# Altium schematic symbol library hallglib.SchLib: 52 symbols
Pins are listed as number, name and electrical type; pins without a type are passive.

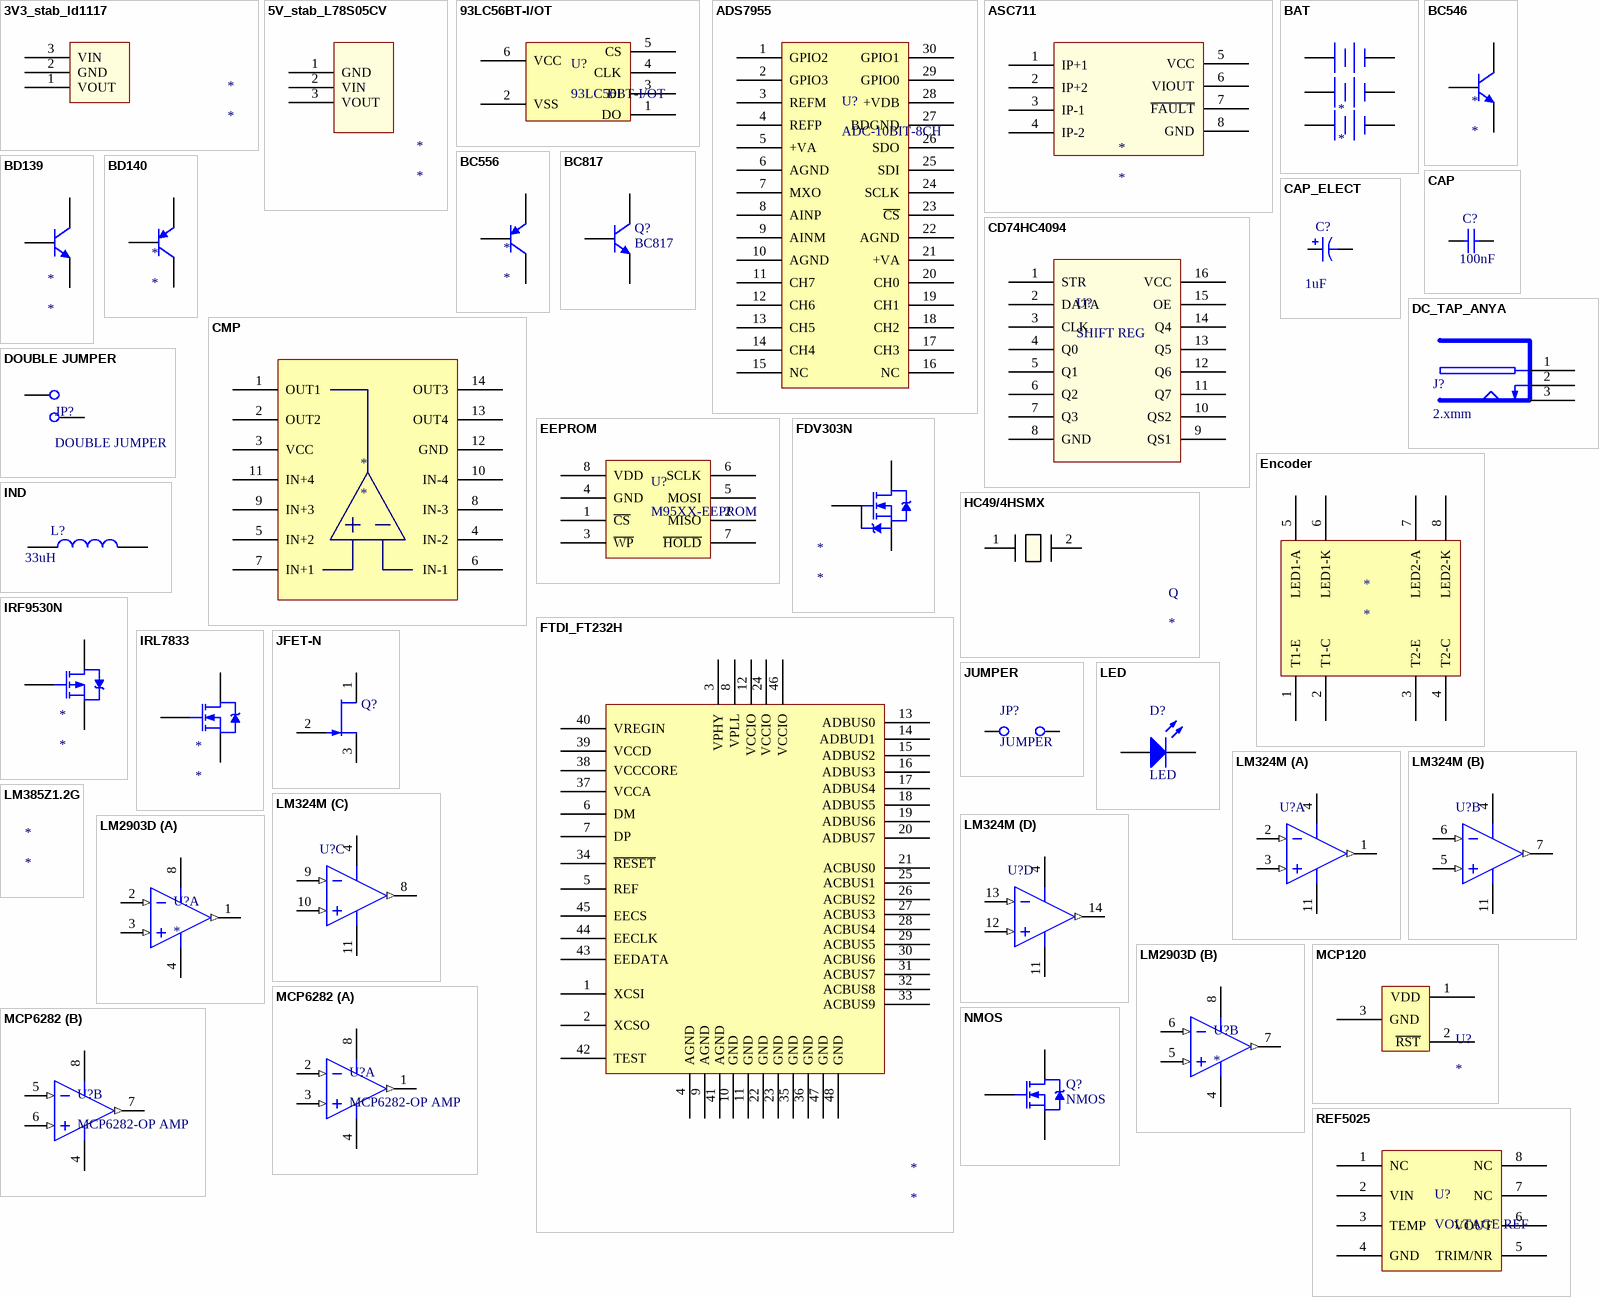
[diagram p0: symbols 3V3_stab_ld1117 to REF5025]

## 3V3_stab_ld1117
designator *
footprint TO-220 (TO, Thru-Hole, Vertical, Heatsink Mounted; 3 In-Line Leads; Pitch 3.81 mm)
pins: 1 VOUT, 2 GND, 3 VIN

## 5V_stab_L78S05CV
designator *
footprint TO-220 (TO, Thru-Hole, Vertical, Heatsink Mounted; 3 In-Line Leads; Pitch 3.81 mm)
pins: 1 GND, 2 VIN, 3 VOUT

## 93LC56BT-I/OT
designator U?
EEPROM
footprint SOT-23
pins: 1 DO, 2 VSS, 3 DI, 4 CLK, 5 CS, 6 VCC

## ADS7955
designator U?, comment ADC-10BIT-8CH
8 CH - 10 BIT - 1MSPS - ADC
pins: 1 GPIO2, 2 GPIO3, 3 REFM, 4 REFP, 5 +VA, 6 AGND, 7 MXO, 8 AINP, 9 AINM, 10 AGND, 11 CH7, 12 CH6, 13 CH5, 14 CH4, 15 NC, 16 NC, 17 CH3, 18 CH2, 19 CH1, 20 CH0, 21 +VA, 22 AGND, 23 ~{CS}, 24 SCLK, 25 SDI, 26 SDO, 27 BDGND, 28 +VDB, 29 GPIO0, 30 GPIO1

## ASC711
designator *
Árammérő
footprint SOP8
pins: 1 IP+1, 2 IP+2, 3 IP-1, 4 IP-2, 5 VCC, 6 VIOUT, 7 ~{FAULT}, 8 GND

## BAT
designator *
footprint Elemtarto_3rekesz
pins: 1 GND, 2 GND, 3 GND, 4 VCC, 5 VCC, 6 VCC

## BC546
designator *
NPN tranzisztor
footprint TO-92 (TO, Flat Index; 3 In-Line, Axial Leads; Body Dia. 4.6mm; Leads 0.41 x 0.39 mm (max))
pins: 1 C, 2 B, 3 E

## BC556
designator *
PNP tranzisztor
footprint TO-92 (TO, Flat Index; 3 In-Line, Axial Leads; Body Dia. 4.6mm; Leads 0.41 x 0.39 mm (max))
pins: 1 C, 2 B, 3 E

## BC817
designator Q?
NPN General-purpose Transistor; ComponentLink1Description: Manufacturer Link; ComponentLink1URL: http://www.semiconductors.philips.com/; ComponentLink2Description: Datasheet; ComponentLink2URL: http://www.semiconductors.philips.com/acrobat/datasheets/BC817_BC817W_BC337_5.pdf
simulation model QBC817 (NPN)
signal-integrity model BC817
footprint FP_SOT23-3 (SOT23-3 tok)
footprint TO-32
pins: 1 B, 2 E, 3 C

## BD139
designator *
NPN tranzisztor
footprint TO-32
pins: 1 E, 2 C, 3 B

## BD140
designator *
PNP tranzisztor
footprint TO-32
pins: 1 B, 2 C, 3 E

## CAP
designator C?, comment 100nF
Capacitor; Value: 100nF
simulation model CAP (Capacitor)
signal-integrity model Cap
footprint FP_0402_CAP_050 (0.5mm magas 0402 kapacitás)
footprint FP_0603_CAP_080 (0.8mm magas 0603 kapacitás)
footprint FP_0805_CAP_085 (0805 kapacitás YAGEO 0.85mm magas)
footprint FP_1206_CAP_125 (1206 kapacitás 1.25 mm)
footprint AXIAL-0.3 (Axial Device, Thru-Hole; 2 Leads; 0.3 in Pin Spacing)
pins: 1, 2

## CAP_ELECT
designator C?, comment 1uF
Polarized Capacitor; Value: 1uF
footprint FP_3528 (3528 TANTÁL SMD "B"-TOK)
footprint FP_6032
footprint FP_7343
footprint AXIAL-0.3 (Axial Device, Thru-Hole; 2 Leads; 0.3 in Pin Spacing)
pins: N, P
1 alternate drawing of the same symbol

## CD74HC4094
designator U?, comment SHIFT REG
8BIT SHIFT REG
pins: 1 STR, 2 DATA, 3 CLK, 4 Q0, 5 Q1, 6 Q2, 7 Q3, 8 GND, 9 QS1, 10 QS2, 11 Q7, 12 Q6, 13 Q5, 14 Q4, 15 OE, 16 VCC

## CMP
designator *
pins: 1 OUT1, 2 OUT2, 3 VCC, 4 IN-2, 5 IN+2, 6 IN-1, 7 IN+1, 8 IN-3, 9 IN+3, 10 IN-4, 11 IN+4, 12 GND, 13 OUT4, 14 OUT3

## DC_TAP_ANYA
designator J?, comment 2.xmm
2.xmm DC HEBA25 TÁPFESZÜLTSÉG ALJZAT ZÁRT, NYÁKBA 90°; Supplier: Lomex 43-07-67
footprint FP_DC_TAP_ANYA (DC HEBA25 TÁPFESZÜLTSÉG ALJZAT ZÁRT, NYÁKBA 90°)
pins: 1 9V (power), 2 GND (power), 3 GND (power)

## DOUBLE JUMPER
designator JP?
Jumper Wire; Supplier: Farnell 1668537×1/6
footprint FP_CONN2_TUSKE_2MM_1.5+3.2 (2×1-es tüskesor, 2mm-es raszter, 1.5mm műanyag + 3.2mm tüske SAMTEC-TMM-1XX-01-...)
pins: 1 C1, 2 C2

## EEPROM
designator U?, comment M95XX-EEPROM
pins: 1 ~{CS}, 2 MISO, 3 ~{WP}, 4 GND, 5 MOSI, 6 SCLK, 7 ~{HOLD}, 8 VDD

## Encoder
designator *
pins: 1 T1-E, 2 T1-C, 3 T2-E, 4 T2-C, 5 LED1-A, 6 LED1-K, 7 LED2-A, 8 LED2-K

## FDV303N
designator *
footprint FP_SOT23-3 (SOT23-3 tok)
pins: 1 G, 2 S, 3 D

## FTDI_FT232H
designator *
USB transciever
footprint LQFP48
pins: 1 XCSI, 2 XCSO, 3 VPHY, 4 AGND, 5 REF, 6 DM, 7 DP, 8 VPLL, 9 AGND, 10 GND, 11 GND, 12 VCCIO, 13 ADBUS0, 14 ADBUD1, 15 ADBUS2, 16 ADBUS3, 17 ADBUS4, 18 ADBUS5, 19 ADBUS6, 20 ADBUS7, 21 ACBUS0, 22 GND, 23 GND, 24 VCCIO, 25 ACBUS1, 26 ACBUS2, 27 ACBUS3, 28 ACBUS4, 29 ACBUS5, 30 ACBUS6, 31 ACBUS7, 32 ACBUS8, 33 ACBUS9, 34 ~{RE}~{SET}, 35 GND, 36 GND, 37 VCCA, 38 VCCCORE, 39 VCCD, 40 VREGIN, 41 AGND, 42 TEST, 43 EEDATA, 44 EECLK, 45 EECS, 46 VCCIO, 47 GND, 48 GND

## HC49/4HSMX
designator Q
kristály
footprint Crystal_10MHz
pins: 1 X1, 2 X2

## IND
designator L?, comment 33uH
Inductor; Value: 33uH
footprint FP_IND_MURATA3131 (Murata Chip Inductor LQH88P Series (3131 Size))
footprint AXIAL-0.3 (Axial Device, Thru-Hole; 2 Leads; 0.3 in Pin Spacing)
footprint toroid
pins: 1, 2

## IRF9530N
designator *
P-MOSFET
footprint TO-220-AB (TO, Thru-Hole, Vertical, Heatsink Mounted; 3 In-Line Leads; Pitch 2.54 mm)
pins: 1 G, 2 D, 3 S

## IRL7833
designator *
N-FET
footprint TO-220-AB (TO, Thru-Hole, Vertical, Heatsink Mounted; 3 In-Line Leads; Pitch 2.54 mm)
pins: 1 G, 2 D, 3 S

## JFET-N
designator Q?
N-Channel JFET; Published: 8-Jun-2000; LatestRevisionDate: 17-Jul-2002; LatestRevisionNote: Re-released for DXP Platform.; PackageReference: TO-254-AA; Publisher: Altium Limited; Code_JEDEC: TO-254-AA
simulation model NJFET
footprint TO-220 (TO, Thru-Hole, Vertical, Heatsink Mounted; 3 In-Line Leads; Pitch 3.81 mm)
pins: 1 D, 2 G, 3 S

## JUMPER
designator JP?
Jumper Wire; Supplier: Farnell 1668537×1/6
footprint FP_CONN2_TUSKE_2MM_1.5+3.2 (2×1-es tüskesor, 2mm-es raszter, 1.5mm műanyag + 3.2mm tüske SAMTEC-TMM-1XX-01-...)
pins: 1 C1, 2 C2

## LED
designator D?
Typical RED GaAs LED
simulation model LED1 (Diode)
footprint FP_LED_TH_GREEN (5mm átmérőjű furatszerelt zöld LED); pin to pad 1>A 2>K
footprint FP_LED_TH_RED (5mm átmérőjű furatszerelt piros LED); pin to pad 1>A 2>K
footprint FP_0805_LED_RED (0805 méretű piros LED); pin to pad 1>A 2>K
footprint FP_0805_LED_GREEN (0805 méretű zöld LED); pin to pad 1>A 2>K
pins: 1 A, 2 K

## LM324M
designator U?
Low Power Quad Operational Amplifier, 14-pin Narrow SOIC; Code_JEDEC: MS-012AB; Code_IPC: SOIC127P600-14; ComponentLink1Description: LM324 Datasheet; ComponentLink1URL: http://www.national.com/ds/LM/LM324.pdf; ComponentLink2Description: LM324 Web Page; ComponentLink2URL: http://www.national.com/pf/LM/LM324.html; ComponentLink3Description: M14A Package Page; ComponentLink3URL: http://www.national.com/packaging/folders/m14a.html
simulation model LM324 (SUBCKT)
footprint FP_SOIC14 (SOIC-14 egyesek szerint narrow, RET szerint normál)
pins on every part: 4 V+ (power), 11 GND (power)
part A pins: 1 OUT1 (out), 2 IN1- (in), 3 IN1+ (in)
part B pins: 5 IN2+ (in), 6 IN2- (in), 7 OUT2 (out)
part C pins: 8 OUT3 (out), 9 IN3- (in), 10 IN3+ (in)
part D pins: 12 IN4+ (in), 13 IN4- (in), 14 OUT4 (out)

## LM385Z1.2G
designator *

## LM2903D
designator U?
komparátor
footprint FP_SO8_MS012AA (SO8 JEDEC MS-012AA, Analog Devices R-8, SO8-SOT96-1, NS M08A)
part A pins: 1 OUT1 (out), 2 IN1- (in), 3 IN1+ (in), 4 GND (power), 8 VCC (power)
part B pins: 4 GND (power), 5 IN2+ (in), 6 IN2- (in), 7 OUT2 (out), 8 VCC (power)

## MCP120
designator U?
Voltage detector
footprint SOT-23 - 3
pins: 1 VDD, 2 ~{RST}, 3 GND

## MCP6282
designator U?, comment MCP6282-OP AMP
MCP6282-2CH OP AMP
part A pins: 1 OUT1 (out), 2 IN1- (in), 3 IN1+ (in), 4 V- (power), 8 V+ (power)
part B pins: 4 V- (power), 5 IN2- (in), 6 IN2+ (in), 7 OUT2 (out), 8 V+ (power)

## NMOS
designator Q?
NXP - BSP030,115 - MOSFET, N CH, 30V, 10A, SOT223; Supplier: Farnell 1758077
footprint FP_SOT223 (SOT223 package, 3 leads)
pins: 1 G, 2 D, 3 S

## REF5025
designator U?, comment VOLTAGE REF
VOLTAGE REFERENCE
pins: 1 NC, 2 VIN, 3 TEMP, 4 GND, 5 TRIM/NR, 6 VOUT, 7 NC, 8 NC

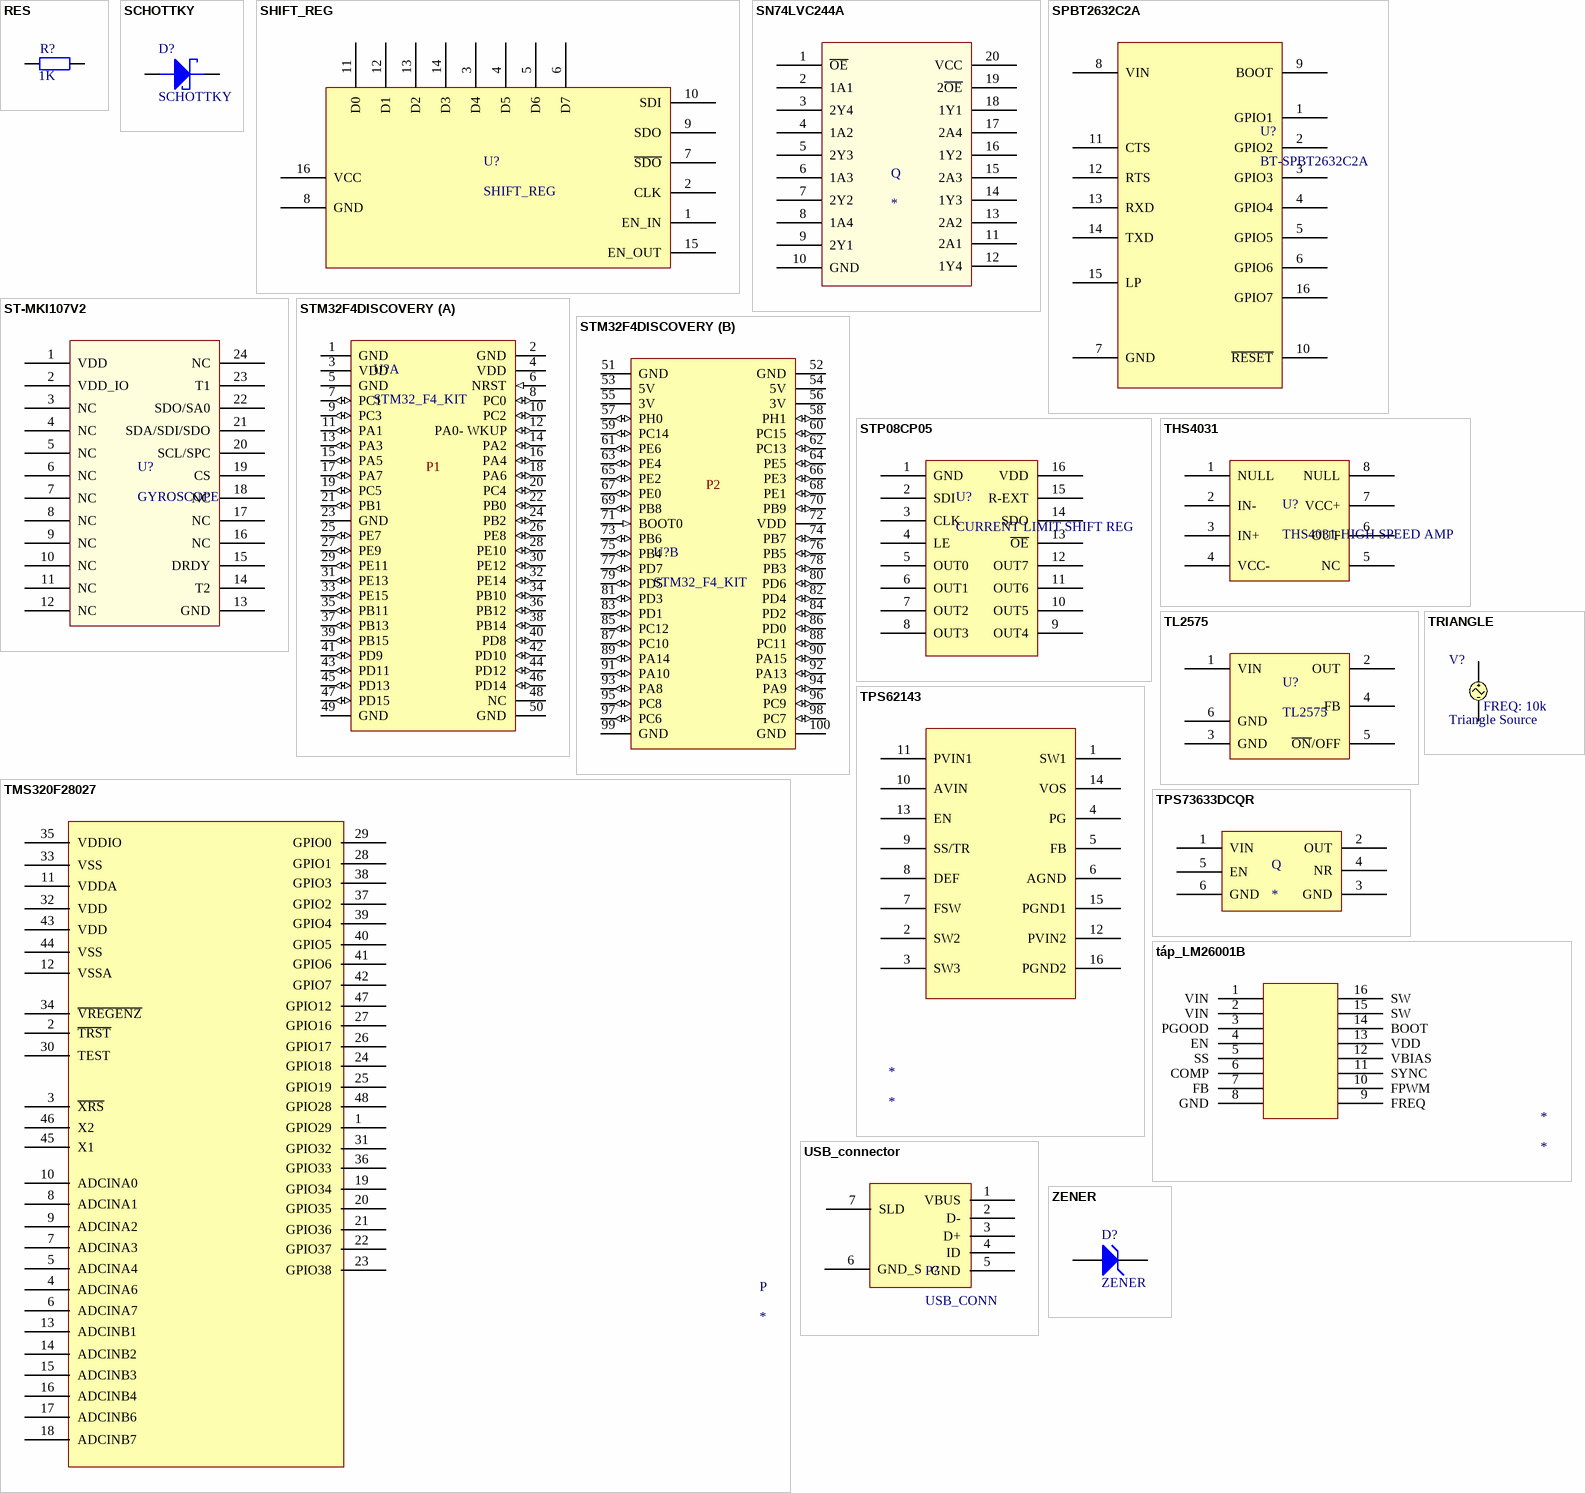
[diagram p1: symbols RES to ZENER]

## RES
designator R?, comment 1K
Resistor; Value: 1K
simulation model RESISTOR (Resistor)
signal-integrity model Res
footprint FP_0603_RES (0603 ellenállás)
footprint FP_0805_RES (0805 ellenállás)
footprint FP_1206_RES (1206 ellenállás)
footprint FP_0805_0ohm (0805 power inductor)
footprint AXIAL-0.3 (Axial Device, Thru-Hole; 2 Leads; 0.3 in Pin Spacing)
pins: 1, 2

## SCHOTTKY
designator D?
NXP - PMEG3020EJ,115 - SCHOTTKY RECT 30V 2A SOD323F; Supplier: Farnell 1757772
footprint FP_SOD323-F (SOD323-F (SC-90))
footprint FP_SOD-123
footprint FP_SMB (DO214-AA tok (SMB))
footprint AXIAL-0.3 (Axial Device, Thru-Hole; 2 Leads; 0.3 in Pin Spacing)
pins: 1 CATHODE, 2 ANODE

## SHIFT_REG
designator U?
pins: 1 EN_IN, 2 CLK, 3 D4, 4 D5, 5 D6, 6 D7, 7 ~{SDO}, 8 GND, 9 SDO, 10 SDI, 11 D0, 12 D1, 13 D2, 14 D3, 15 EN_OUT, 16 VCC

## SN74LVC244A
designator Q
footprint SOP20
pins: 1 ~{OE}, 2 1A1, 3 2Y4, 4 1A2, 5 2Y3, 6 1A3, 7 2Y2, 8 1A4, 9 2Y1, 10 GND, 11 2A1, 12 1Y4, 13 2A2, 14 1Y3, 15 2A3, 16 1Y2, 17 2A4, 18 1Y1, 19 2~{OE}, 20 VCC

## SPBT2632C2A
designator U?, comment BT-SPBT2632C2A
BLUETOOTH MODUL
pins: 1 GPIO1, 2 GPIO2, 3 GPIO3, 4 GPIO4, 5 GPIO5, 6 GPIO6, 7 GND, 8 VIN, 9 BOOT, 10 ~{RESET}, 11 CTS, 12 RTS, 13 RXD, 14 TXD, 15 LP, 16 GPIO7

## ST-MKI107V2
designator U?, comment GYROSCOPE
pins: 1 VDD, 2 VDD_IO, 3 NC, 4 NC, 5 NC, 6 NC, 7 NC, 8 NC, 9 NC, 10 NC, 11 NC, 12 NC, 13 GND, 14 T2, 15 DRDY, 16 NC, 17 NC, 18 NC, 19 CS, 20 SCL/SPC, 21 SDA/SDI/SDO, 22 SDO/SA0, 23 T1, 24 NC

## STM32F4DISCOVERY
designator U?, comment STM32_F4_KIT
STM32 F4 Discovery Evaluation Kit
footprint FP_STM32F4DISC (STM32 F4 Discovery evaluation board)
part A pins: 1 GND (power) "Ground", 2 GND (power) "Ground", 3 VDD (power) "Supply", 4 VDD (power) "Supply", 5 GND (power) "Ground", 6 NRST (in) "Reset signal", 7 PC1 (io) "ETH_MDC/ ADC123_IN11", 8 PC0 (io) "OTG_HS_ULPI_STP/ ADC123_IN10", 9 PC3 (io) "SPI2_MOSI/ I2S2_SD/ OTG_HS_ULPI_NXT/ ETH_MII_TX_CLK/ ADC123_IN13", 10 PC2 (io) "SPI2_MISO/ OTG_HS_ULPI_DIR/ TH_MII_TXD2/ I2S2ext_SD/ ADC123_IN12", 11 PA1 (io) "USART2_RTS/ USART4_RX/ ETH_RMII_REF_CLK/ ETH_MII_RX_CLK/ TIM5_CH2/ TIMM2_CH2/ ADC123_IN1", 12 PA0- WKUP (io) "USART2_CTS/ USART4_TX/ ETH_MII_CRS/ TIM2_CH1_ETR/ TIM5_CH1/ TIM8_ETR/ ADC123_IN0/ WKUP", 13 PA3 (io) "USART2_RX/ TIM5_CH4/ TIM9_CH2/ TIM2_CH4/ OTG_HS_ULPI_D0/ ETH_MII_COL/ ADC123_IN3", 14 PA2 (io) "USART2_TX/ TIM5_CH3/ TIM9_CH1/ TIM2_CH3/ ETH_MDIO/ ADC123_IN2", 15 PA5 (io) "SPI1_SCK/ OTG_HS_ULPI_CK/ TIM2_CH1_ETR/ TIM8_CHIN/ ADC12_IN5/ DAC2_OUT", 16 PA4 (io) "SPI1_NSS/ SPI3_NSS/ USART2_CK/ DCMI_HSYNC/ OTG_HS_SOF/ I2S3_WS/ ADC12_IN4/ DAC1_OUT", 17 PA7 (io) "SPI1_MOSI/ TIM8_CH1N/ TIM14_CH1TIM3_CH2/ ETH_MII_RX_DV/ TIM1_CH1N/ RMII_CRS_DV/ ADC12_IN7", 18 PA6 (io) "SPI1_MISO/ TIM8_BKIN/ TIM13_CH1/ DCMI_PIXCLK/ TIM3_CH1/ TIM1_BKIN/ ADC12_IN6", 19 PC5 (io) "ETH_RMII_RX_D1/ ETH_MII_RX_D1/ ADC12_IN15", 20 PC4 (io) "ETH_RMII_RX_D0/ ETH_MII_RX_D0/ ADC12_IN14", 21 PB1 (io) "TIM3_CH4/ TIM8_CH3N/ OTG_HS_ULPI_D2/ ETH_MII_RXD3/ OTG_HS_INTN/ TIM1_CH3N/ ADC12_IN9", 22 PB0 (io) "TIM3_CH3/ TIM8_CH2N/ OTG_HS_ULPI_D1/ ETH_MII_RXD2/ TIM1_CH2N/ ADC12_IN8", 23 GND (power) "Ground", 24 PB2 (io), 25 PE7 (io) "FSMC_D4/ TIM1_ETR", 26 PE8 (io) "FSMC_D5/ TIM1_CH1N", 27 PE9 (io) "FSMC_D6/ TIM1_CH1", 28 PE10 (io) "FSMC_D7/ TIM1_CH2N", 29 PE11 (io) "FSMC_D8/ TIM1_CH2", 30 PE12 (io) "FSMC_D9/ TIM1_CH3N", 31 PE13 (io) "FSMC_D10/ TIM1_CH3", 32 PE14 (io) "FSMC_D11/ TIM1_CH4", 33 PE15 (io) "FSMC_D12/ TIM1_BKIN", 34 PB10 (io) "SPI2_SCK/ I2S2_CK/ I2C2_SCL/ USART3_TX/ OTG_HS_ULPI_D3/ ETH_MII_RX_ER/ OTG_HS_SCL/ TIM2_CH3", 35 PB11 (io) "I2C2_SDA/ USART3_RX/ OTG_HS_ULPI_D4/ ETH_RMII_TX_EN/ ETH_MII_TX_EN/ OTG_HS_SDA/ TIM2_CH4", 36 PB12 (io) "SPI2_NSS/ I2S2_WS/ I2C2_SMBA/ USART3_CK/ TIM1_BKIN/ CAN2_RX/ OTG_HS_ULPI_D5/ ETH_RMII_TXD0/ ETH_MII_TXD0/ OTG_HS_ID", 37 PB13 (io) "SPI2_SCK/ I2S2_CK/ USART3_CTS/ TIM1_CH1N/ CAN2_TX/ OTG_HS_ULPI_D6/ ETH_RMII_TXD1/ ETH_MII_TXD1/ OTG_HS_VBUS", 38 PB14 (io) "SPI2_MISO/ TIM1_CH2N/ TIM12_CH1/ OTG_HS_DMUSART3_ RTS/ TIM8_CH2N/ I2S2ext_SD", 39 PB15 (io) "SPI2_MOSI/ I2S2_SD/ TIM1_CH3N/ TIM8_CH3N/ TIM12_CH2/ OTG_HS_DP", 40 PD8 (io) "FSMC_D13/ USART3_TX", 41 PD9 (io) "FSMC_D14/ USART3_RX", 42 PD10 (io) "FSMC_D15/ USART3_CK", 43 PD11 (io) "FSMC_A16/ USART3_CTS", 44 PD12 (io) "FSMC_A17/ TIM4_CH1/ USART3_RTS", 45 PD13 (io) "FSMC_A18/ TIM4_CH2", 46 PD14 (io) "FSMC_D0/ TIM4_CH3", 47 PD15 (io) "FSMC_D1/ TIM4_CH4", 48 NC "Not connected", 49 GND (power) "Ground", 50 GND (power) "Ground"
part B pins: 51 GND (power) "Ground", 52 GND (power) "Ground", 53 5V (power) "USB 5V", 54 5V (power) "USB 5V", 55 3V (power) "3V from board", 56 3V (power) "3V from board", 57 PH0 (io) "OSC_IN", 58 PH1 (io) "OSC_OUT", 59 PC14 (io) "OSC32_IN", 60 PC15 (io) "OSC32_OUT", 61 PE6 (io) "TRACED3/ FSMC_A22/ TIM9_CH2/ DCMI_D7", 62 PC13 (io) "RTC_AF1", 63 PE4 (io) "TRACED1/ FSMC_A20/ DCMI_D4", 64 PE5 (io) "TRACED2/ FSMC_A21/ TIM9_CH1/ DCMI_D6", 65 PE2 (io) "TRACECLK/ FSMC_A23/ ETH_MII_TXD3", 66 PE3 (io) "TRACED0/ FSMC_A19", 67 PE0 (io) "TIM4_ETR/ FSMC_NBL0/ DCMI_D2", 68 PE1 (io) "FSMC_NBL1/ DCMI_D3", 69 PB8 (io) "TIM4_CH3/ SDIO_D4/ TIM10_CH1/ DCMI_D6/ OTG_FS_SCL/ ETH_MII_TXD3/ I2C1_SCL/ CAN1_RX", 70 PB9 (io) "SPI2_NSS/ I2S2_WS/ TIM4_CH4/ TIM11_CH1/ OTG_FS_SDA/ SDIO_D5/ DCMI_D7/ I2C1_SDA/ CAN1_TX", 71 BOOT0 (in) "VPP", 72 VDD (power) "Supply", 73 PB6 (io) "I2C1_SCL/ TIM4_CH1/ CAN2_TX/ OTG_FS_INTN/ DCMI_D5/ USART1_TX", 74 PB7 (io) "I2C1_SDA/ FSMC_NL/ DCMI_VSYNC/ USART1_RX/ TIM4_CH2", 75 PB4 (io) "NJTRST/ SPI3_MISO/ TIM3_CH1/ SPI1_MISO/ I2S3ext_SD", 76 PB5 (io) "I2C1_SMBA/ CAN2_RX/ OTG_HS_ULPI_D7/ ETH_PPS_OUT/ TIM3_CH2/ SPI1_MOSI/ SPI3_MOSI/ DCMI_D10/ I2S3_SD", 77 PD7 (io) "USART2_CK/ FSMC_NE1/ FSMC_NCE2", 78 PB3 (io) "JTDO/ TRACESWO/ SPI3_SCK/ I2S3_CK/ TIM2_CH2/ SPI1_SCK", 79 PD5 (io) "FSMC_NWE/ USART2_TX", 80 PD6 (io) "FSMC_NWAIT/ USART2_RX", 81 PD3 (io) "FSMC_CLK/ USART2_CTS", 82 PD4 (io) "FSMC_NOE/ USART2_RTS", 83 PD1 (io) "FSMC_D3/ CAN1_TX", 84 PD2 (io) "TIM3_ETR/ UART5_RXSDIO_CMD/ DCMI_D11", 85 PC12 (io) "UART5_TX/ SDIO_CK/ DCMI_D9/ SPI3_MOSI/ I2S3_SD/ USART3_CK", 86 PD0 (io) "FSMC_D2/ CAN1_RX", 87 PC10 (io) "SPI3_SCK/ I2S3_CK/ UART4_TX/ SDIO_D2/ DCMI_D8/ USART3_TX", 88 PC11 (io) "UART4_RX/ SPI3_MISO/ SDIO_D3/ DCMI_D4/ USART3_RX/ I2S3ext_SD", 89 PA14 (io) "JTCK-SWCLK", 90 PA15 (io) "JTDI/ SPI3_NSS/ I2S3_WS/ TIM2_CH1_ETR/ SPI1_NSS", 91 PA10 (io) "USART1_RX/ TIM1_CH3/ OTG_FS_ID/ DCMI_D1", 92 PA13 (io) "JTMS-SWDIO", 93 PA8 (io) "MCO1/ USART1_CK/ TIM1_CH1/ I2C3_SCL/ OTG_FS_SOF", 94 PA9 (io) "USART1_TX/ TIM1_CH2/ I2C3_SMBA/ DCMI_D0/ OTG_FS_VBUS", 95 PC8 (io) "TIM8_CH3/ SDIO_D0/ TIM3_CH3/ USART6_CK/ DCMI_D2", 96 PC9 (io) "I2S_CKIN/ MCO2/ TIM8_CH4/ SDIO_D1/ I2C3_SDA/ DCMI_D3/ TIM3_CH4", 97 PC6 (io) "I2S2_MCK/ TIM8_CH1/ SDIO_D6/ USART6_TX/ DCMI_D0/ TIM3_CH1", 98 PC7 (io) "I2S3_MCK/ TIM8_CH2/ SDIO_D7/ USART6_RX/ DCMI_D1/ TIM3_CH2", 99 GND (power) "Ground", 100 GND (power) "Ground"
part A text: P1
part B text: P2

## STP08CP05
designator U?, comment CURRENT LIMIT SHIFT REG
pins: 1 GND, 2 SDI, 3 CLK, 4 LE, 5 OUT0, 6 OUT1, 7 OUT2, 8 OUT3, 9 OUT4, 10 OUT5, 11 OUT6, 12 OUT7, 13 ~{OE}, 14 SDO, 15 R-EXT, 16 VDD

## THS4031
designator U?, comment THS4031-HIGH SPEED AMP
THS4031 100-MHz LOW-NOISE HIGH-SPEED AMPLIFIER
pins: 1 NULL, 2 IN-, 3 IN+, 4 VCC-, 5 NC, 6 OUT, 7 VCC+, 8 NULL

## TL2575
designator U?
TL2575 BUCK SWITCHING VOLTAGE REGULATOR
pins: 1 VIN, 2 OUT, 3 GND, 4 FB, 5 ~{ON}/OFF, 6 GND

## TMS320F28027
designator P
Processor
footprint S-PQFP48
pins: 1 GPIO29, 2 ~{TRST}, 3 ~{XRS}, 4 ADCINA6, 5 ADCINA4, 6 ADCINA7, 7 ADCINA3, 8 ADCINA1, 9 ADCINA2, 10 ADCINA0, 11 VDDA, 12 VSSA, 13 ADCINB1, 14 ADCINB2, 15 ADCINB3, 16 ADCINB4, 17 ADCINB6, 18 ADCINB7, 19 GPIO34, 20 GPIO35, 21 GPIO36, 22 GPIO37, 23 GPIO38, 24 GPIO18, 25 GPIO19, 26 GPIO17, 27 GPIO16, 28 GPIO1, 29 GPIO0, 30 TEST, 31 GPIO32, 32 VDD, 33 VSS, 34 ~{VREGENZ}, 35 VDDIO, 36 GPIO33, 37 GPIO2, 38 GPIO3, 39 GPIO4, 40 GPIO5, 41 GPIO6, 42 GPIO7, 43 VDD, 44 VSS, 45 X1, 46 X2, 47 GPIO12, 48 GPIO28

## TPS62143
designator *
footprint 5V_tap_TPS62143
pins: 1 SW1, 2 SW2, 3 SW3, 4 PG, 5 FB, 6 AGND, 7 FSW, 8 DEF, 9 SS/TR, 10 AVIN, 11 PVIN1, 12 PVIN2, 13 EN, 14 VOS, 15 PGND1, 16 PGND2

## TPS73633DCQR
designator Q
proci táp 3V3
footprint TPS73633
pins: 1 VIN, 2 OUT, 3 GND, 4 NR, 5 EN, 6 GND

## TRIANGLE
designator V?, comment Triangle Source  FREQ: 10k
Triangular Voltage Source; LOW: 0; HIGH: 24
simulation model TRIANGLE (Triangle Wave generator)
pins: 1 OUT+, 2 OUT-

## táp_LM26001B
designator *
pins: 1 VIN, 2 VIN, 3 PGOOD, 4 EN, 5 SS, 6 COMP, 7 FB, 8 GND, 9 FREQ, 10 FPWM, 11 SYNC, 12 VBIAS, 13 VDD, 14 BOOT, 15 SW, 16 SW

## USB_connector
designator P?, comment USB_CONN
usb, smd csatlakozó
footprint SMD_Micro_USB
pins: 1 VBUS, 2 D-, 3 D+, 4 ID, 5 GND, 6 GND_S, 7 SLD

## ZENER
designator D?
Zener Diode; U_Z: 24
signal-integrity model D Zener
footprint FP_SMA (SMA DO-214AC tok)
simulation model ZENER (Zener Diode 24V)
footprint FP_SMB (DO214-AA tok (SMB))
footprint FP_SOD-123
pins: 1 A, 2 K